# Altium schematic symbol library Trans CT Ideal.Schlib: 1 symbol
Pins are listed as number, name and electrical type; pins without a type are passive.

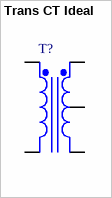
[diagram p0: symbol Trans CT Ideal]

## Trans CT Ideal
designator T?
Center-Tapped Transformer (Ideal)
pins: 1 Pri+, 2 Pri-, 3 Sec+, 4 SecCT, 5 Sec-